# Altium schematic symbol library RPi.SchLib: 2 symbols
Pins are listed as number, name and electrical type; pins without a type are passive.

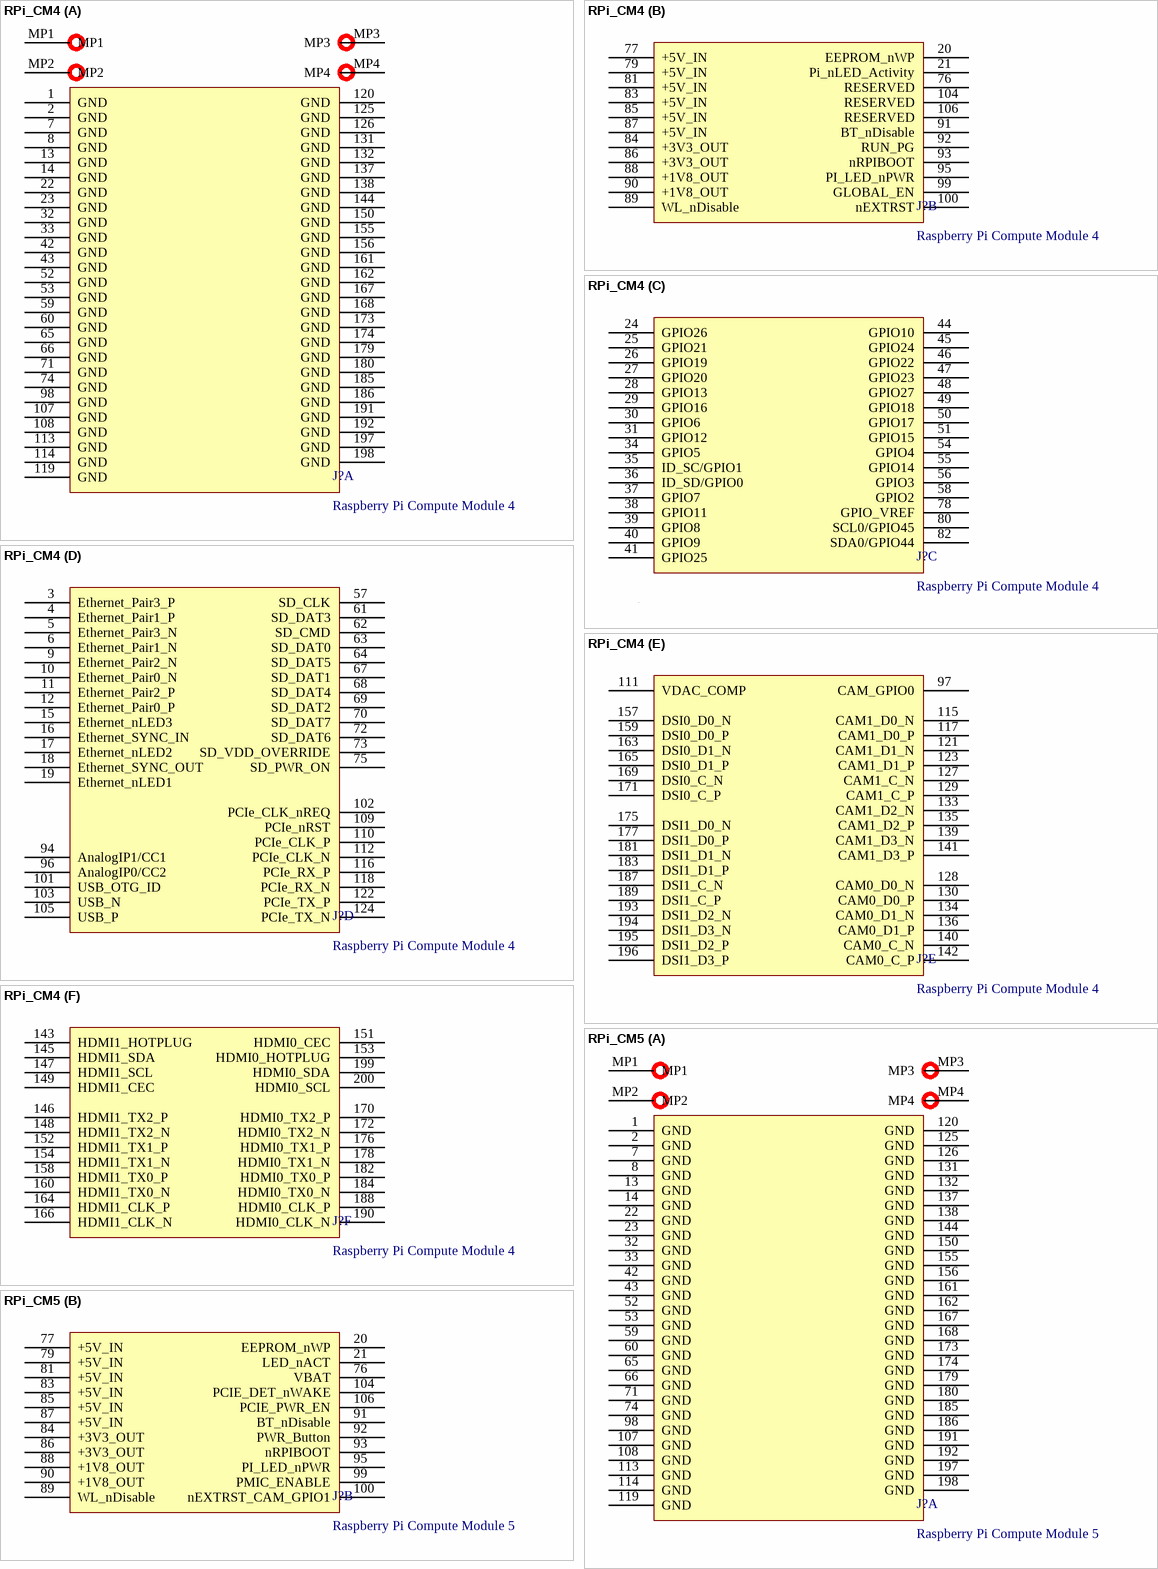
[diagram p0: symbols RPi_CM4 to RPi_CM5]

## RPi_CM4
designator J?, comment Raspberry Pi Compute Module 4
footprint RPi_CM4_1.5mm (Raspberry Pi compute module 4 footprint with mounting holes for SMTSO-M25-XET series. It is to be used with two DF40C-100DS-0.4v connectors.)
footprint RPi_CM4_3mm (Raspberry Pi compute module 4 footprint with mounting holes for SMTSO-M25-3ET. It is to be used with two DF40HC(3.0)-100DS-0.4V(51) connectors.)
part A pins: 1 GND (power), 2 GND (power), 7 GND (power), 8 GND (power), 13 GND (power), 14 GND (power), 22 GND (power), 23 GND (power), 32 GND (power), 33 GND (power), 42 GND (power), 43 GND (power), 52 GND (power), 53 GND (power), 59 GND (power), 60 GND (power), 65 GND (power), 66 GND (power), 71 GND (power), 74 GND (power), 98 GND (power), 107 GND (power), 108 GND (power), 113 GND (power), 114 GND (power), 119 GND (power), 120 GND (power), 125 GND (power), 126 GND (power), 131 GND (power), 132 GND (power), 137 GND (power), 138 GND (power), 144 GND (power), 150 GND (power), 155 GND (power), 156 GND (power), 161 GND (power), 162 GND (power), 167 GND (power), 168 GND (power), 173 GND (power), 174 GND (power), 179 GND (power), 180 GND (power), 185 GND (power), 186 GND (power), 191 GND (power), 192 GND (power), 197 GND (power), 198 GND (power), MP1 (power), MP2 (power), MP3 (power), MP4 (power)
part B pins: 20 EEPROM_nWP (power), 21 Pi_nLED_Activity (power), 76 RESERVED (power), 77 +5V_IN (power), 79 +5V_IN (power), 81 +5V_IN (power), 83 +5V_IN (power), 84 +3V3_OUT (power), 85 +5V_IN (power), 86 +3V3_OUT (power), 87 +5V_IN (power), 88 +1V8_OUT (power), 89 WL_nDisable (power), 90 +1V8_OUT (power), 91 BT_nDisable (power), 92 RUN_PG (power), 93 nRPIBOOT (power), 95 PI_LED_nPWR (power), 99 GLOBAL_EN (power), 100 nEXTRST (power), 104 RESERVED (power), 106 RESERVED (power)
part C pins: 24 GPIO26 (power), 25 GPIO21 (power), 26 GPIO19 (power), 27 GPIO20 (power), 28 GPIO13 (power), 29 GPIO16 (power), 30 GPIO6 (power), 31 GPIO12 (power), 34 GPIO5 (power), 35 ID_SC/GPIO1 (power), 36 ID_SD/GPIO0 (power), 37 GPIO7 (power), 38 GPIO11 (power), 39 GPIO8 (power), 40 GPIO9 (power), 41 GPIO25 (power), 44 GPIO10 (power), 45 GPIO24 (power), 46 GPIO22 (power), 47 GPIO23 (power), 48 GPIO27 (power), 49 GPIO18 (power), 50 GPIO17 (power), 51 GPIO15 (power), 54 GPIO4 (power), 55 GPIO14 (power), 56 GPIO3 (power), 58 GPIO2 (power), 78 GPIO_VREF (power), 80 SCL0/GPIO45 (power), 82 SDA0/GPIO44 (power)
part D pins: 3 Ethernet_Pair3_P (power), 4 Ethernet_Pair1_P (power), 5 Ethernet_Pair3_N (power), 6 Ethernet_Pair1_N (power), 9 Ethernet_Pair2_N (power), 10 Ethernet_Pair0_N (power), 11 Ethernet_Pair2_P (power), 12 Ethernet_Pair0_P (power), 15 Ethernet_nLED3 (power), 16 Ethernet_SYNC_IN (power), 17 Ethernet_nLED2 (power), 18 Ethernet_SYNC_OUT (power), 19 Ethernet_nLED1 (power), 57 SD_CLK (power), 61 SD_DAT3 (power), 62 SD_CMD (power), 63 SD_DAT0 (power), 64 SD_DAT5 (power), 67 SD_DAT1 (power), 68 SD_DAT4 (power), 69 SD_DAT2 (power), 70 SD_DAT7 (power), 72 SD_DAT6 (power), 73 SD_VDD_OVERRIDE (power), 75 SD_PWR_ON (power), 94 AnalogIP1/CC1 (power), 96 AnalogIP0/CC2 (power), 101 USB_OTG_ID (power), 102 PCIe_CLK_nREQ (power), 103 USB_N (power), 105 USB_P (power), 109 PCIe_nRST (power), 110 PCIe_CLK_P (power), 112 PCIe_CLK_N (power), 116 PCIe_RX_P (power), 118 PCIe_RX_N (power), 122 PCIe_TX_P (power), 124 PCIe_TX_N (power)
part E pins: 97 CAM_GPIO0 (power), 111 VDAC_COMP (power), 115 CAM1_D0_N (power), 117 CAM1_D0_P (power), 121 CAM1_D1_N (power), 123 CAM1_D1_P (power), 127 CAM1_C_N (power), 128 CAM0_D0_N (power), 129 CAM1_C_P (power), 130 CAM0_D0_P (power), 133 CAM1_D2_N (power), 134 CAM0_D1_N (power), 135 CAM1_D2_P (power), 136 CAM0_D1_P (power), 139 CAM1_D3_N (power), 140 CAM0_C_N (power), 141 CAM1_D3_P (power), 142 CAM0_C_P (power), 157 DSI0_D0_N (power), 159 DSI0_D0_P (power), 163 DSI0_D1_N (power), 165 DSI0_D1_P (power), 169 DSI0_C_N (power), 171 DSI0_C_P (power), 175 DSI1_D0_N (power), 177 DSI1_D0_P (power), 181 DSI1_D1_N (power), 183 DSI1_D1_P (power), 187 DSI1_C_N (power), 189 DSI1_C_P (power), 193 DSI1_D2_N (power), 194 DSI1_D3_N (power), 195 DSI1_D2_P (power), 196 DSI1_D3_P (power)
part F pins: 143 HDMI1_HOTPLUG (power), 145 HDMI1_SDA (power), 146 HDMI1_TX2_P (power), 147 HDMI1_SCL (power), 148 HDMI1_TX2_N (power), 149 HDMI1_CEC (power), 151 HDMI0_CEC (power), 152 HDMI1_TX1_P (power), 153 HDMI0_HOTPLUG (power), 154 HDMI1_TX1_N (power), 158 HDMI1_TX0_P (power), 160 HDMI1_TX0_N (power), 164 HDMI1_CLK_P (power), 166 HDMI1_CLK_N (power), 170 HDMI0_TX2_P (power), 172 HDMI0_TX2_N (power), 176 HDMI0_TX1_P (power), 178 HDMI0_TX1_N (power), 182 HDMI0_TX0_P (power), 184 HDMI0_TX0_N (power), 188 HDMI0_CLK_P (power), 190 HDMI0_CLK_N (power), 199 HDMI0_SDA (power), 200 HDMI0_SCL (power)

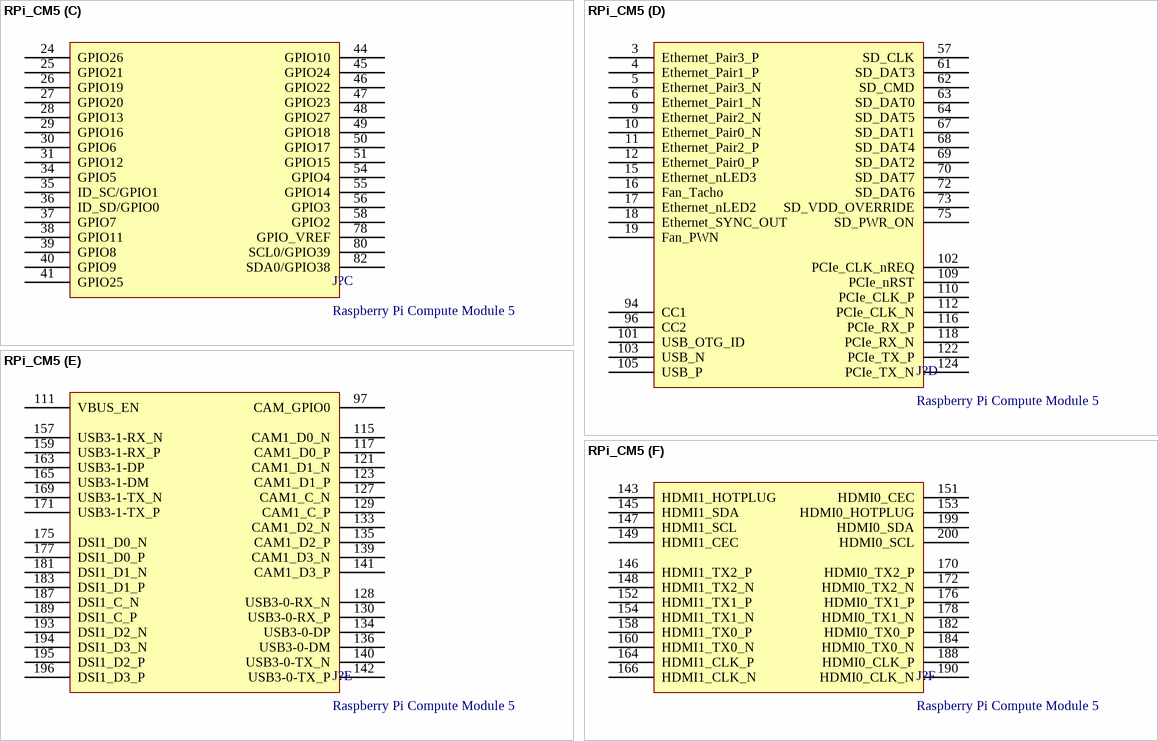
[diagram p1: symbol RPi_CM5]

## RPi_CM5
designator J?, comment Raspberry Pi Compute Module 5
footprint RPi_CM5_1.5mm (Raspberry Pi compute module 5 footprint with mounting holes for SMTSO-M25-XET series. It is to be used with two 10164227-1001A1RLF connectors.)
footprint RPi_CM5_4mm (Raspberry Pi compute module 5 footprint with mounting holes for SMTSO-M25-4ET. It is to be used with two 10164227-1004A1RLF connectors.)
part A pins: 1 GND (power), 2 GND (power), 7 GND (power), 8 GND (power), 13 GND (power), 14 GND (power), 22 GND (power), 23 GND (power), 32 GND (power), 33 GND (power), 42 GND (power), 43 GND (power), 52 GND (power), 53 GND (power), 59 GND (power), 60 GND (power), 65 GND (power), 66 GND (power), 71 GND (power), 74 GND (power), 98 GND (power), 107 GND (power), 108 GND (power), 113 GND (power), 114 GND (power), 119 GND (power), 120 GND (power), 125 GND (power), 126 GND (power), 131 GND (power), 132 GND (power), 137 GND (power), 138 GND (power), 144 GND (power), 150 GND (power), 155 GND (power), 156 GND (power), 161 GND (power), 162 GND (power), 167 GND (power), 168 GND (power), 173 GND (power), 174 GND (power), 179 GND (power), 180 GND (power), 185 GND (power), 186 GND (power), 191 GND (power), 192 GND (power), 197 GND (power), 198 GND (power), MP1 (power), MP2 (power), MP3 (power), MP4 (power)
part B pins: 20 EEPROM_nWP (power), 21 LED_nACT (power), 76 VBAT (power), 77 +5V_IN (power), 79 +5V_IN (power), 81 +5V_IN (power), 83 +5V_IN (power), 84 +3V3_OUT (power), 85 +5V_IN (power), 86 +3V3_OUT (power), 87 +5V_IN (power), 88 +1V8_OUT (power), 89 WL_nDisable (power), 90 +1V8_OUT (power), 91 BT_nDisable (power), 92 PWR_Button (power), 93 nRPIBOOT (power), 95 PI_LED_nPWR (power), 99 PMIC_ENABLE (power), 100 nEXTRST_CAM_GPIO1 (power), 104 PCIE_DET_nWAKE (power), 106 PCIE_PWR_EN (power)
part C pins: 24 GPIO26 (power), 25 GPIO21 (power), 26 GPIO19 (power), 27 GPIO20 (power), 28 GPIO13 (power), 29 GPIO16 (power), 30 GPIO6 (power), 31 GPIO12 (power), 34 GPIO5 (power), 35 ID_SC/GPIO1 (power), 36 ID_SD/GPIO0 (power), 37 GPIO7 (power), 38 GPIO11 (power), 39 GPIO8 (power), 40 GPIO9 (power), 41 GPIO25 (power), 44 GPIO10 (power), 45 GPIO24 (power), 46 GPIO22 (power), 47 GPIO23 (power), 48 GPIO27 (power), 49 GPIO18 (power), 50 GPIO17 (power), 51 GPIO15 (power), 54 GPIO4 (power), 55 GPIO14 (power), 56 GPIO3 (power), 58 GPIO2 (power), 78 GPIO_VREF (power), 80 SCL0/GPIO39 (power), 82 SDA0/GPIO38 (power)
part D pins: 3 Ethernet_Pair3_P (power), 4 Ethernet_Pair1_P (power), 5 Ethernet_Pair3_N (power), 6 Ethernet_Pair1_N (power), 9 Ethernet_Pair2_N (power), 10 Ethernet_Pair0_N (power), 11 Ethernet_Pair2_P (power), 12 Ethernet_Pair0_P (power), 15 Ethernet_nLED3 (power), 16 Fan_Tacho (power), 17 Ethernet_nLED2 (power), 18 Ethernet_SYNC_OUT (power), 19 Fan_PWN (power), 57 SD_CLK (power), 61 SD_DAT3 (power), 62 SD_CMD (power), 63 SD_DAT0 (power), 64 SD_DAT5 (power), 67 SD_DAT1 (power), 68 SD_DAT4 (power), 69 SD_DAT2 (power), 70 SD_DAT7 (power), 72 SD_DAT6 (power), 73 SD_VDD_OVERRIDE (power), 75 SD_PWR_ON (power), 94 CC1 (power), 96 CC2 (power), 101 USB_OTG_ID (power), 102 PCIe_CLK_nREQ (power), 103 USB_N (power), 105 USB_P (power), 109 PCIe_nRST (power), 110 PCIe_CLK_P (power), 112 PCIe_CLK_N (power), 116 PCIe_RX_P (power), 118 PCIe_RX_N (power), 122 PCIe_TX_P (power), 124 PCIe_TX_N (power)
part E pins: 97 CAM_GPIO0 (power), 111 VBUS_EN (power), 115 CAM1_D0_N (power), 117 CAM1_D0_P (power), 121 CAM1_D1_N (power), 123 CAM1_D1_P (power), 127 CAM1_C_N (power), 128 USB3-0-RX_N (power), 129 CAM1_C_P (power), 130 USB3-0-RX_P (power), 133 CAM1_D2_N (power), 134 USB3-0-DP (power), 135 CAM1_D2_P (power), 136 USB3-0-DM (power), 139 CAM1_D3_N (power), 140 USB3-0-TX_N (power), 141 CAM1_D3_P (power), 142 USB3-0-TX_P (power), 157 USB3-1-RX_N (power), 159 USB3-1-RX_P (power), 163 USB3-1-DP (power), 165 USB3-1-DM (power), 169 USB3-1-TX_N (power), 171 USB3-1-TX_P (power), 175 DSI1_D0_N (power), 177 DSI1_D0_P (power), 181 DSI1_D1_N (power), 183 DSI1_D1_P (power), 187 DSI1_C_N (power), 189 DSI1_C_P (power), 193 DSI1_D2_N (power), 194 DSI1_D3_N (power), 195 DSI1_D2_P (power), 196 DSI1_D3_P (power)
part F pins: 143 HDMI1_HOTPLUG (power), 145 HDMI1_SDA (power), 146 HDMI1_TX2_P (power), 147 HDMI1_SCL (power), 148 HDMI1_TX2_N (power), 149 HDMI1_CEC (power), 151 HDMI0_CEC (power), 152 HDMI1_TX1_P (power), 153 HDMI0_HOTPLUG (power), 154 HDMI1_TX1_N (power), 158 HDMI1_TX0_P (power), 160 HDMI1_TX0_N (power), 164 HDMI1_CLK_P (power), 166 HDMI1_CLK_N (power), 170 HDMI0_TX2_P (power), 172 HDMI0_TX2_N (power), 176 HDMI0_TX1_P (power), 178 HDMI0_TX1_N (power), 182 HDMI0_TX0_P (power), 184 HDMI0_TX0_N (power), 188 HDMI0_CLK_P (power), 190 HDMI0_CLK_N (power), 199 HDMI0_SDA (power), 200 HDMI0_SCL (power)